# Altium footprint library Diode.PcbLib: 4 footprints
Each footprint in its own frame and in the unit in brackets; x right, y up, seen from the top. Pads: shape width x height; smd on the part's side, far side on the other; paste and mask are expansions set on the pad; w line width, h text height; cw(c..) or ccw(c..) is an arc to the next point about the centre after c.
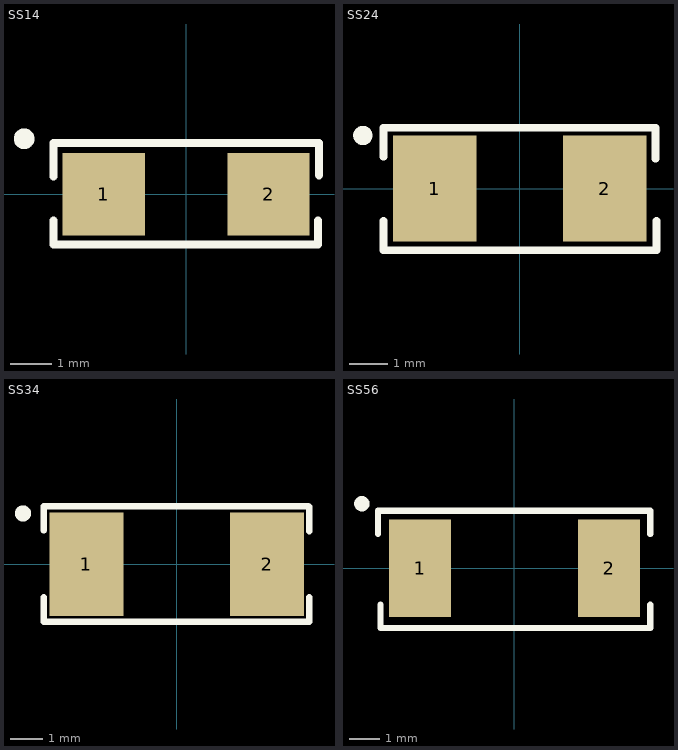
[diagram p0: the footprints below, top view; thin cyan lines are the x and y axes]

## SS14 [mm] "DO-214-AC/SMA Molded Diode, Body 5.3x2.6mm, IPC Medium Density"
height 2.3
pads (2):
  rect 1.999x1.999 smd: 1(-2,0) 2(2,0)
Top Overlay:
  circle w0.25: c-3.937,1.346 r0.125
  lines w0.2: -3.226,-0.638 -3.226,-1.219 3.2,-1.219 3.2,-0.638 ; -3.226,0.432 -3.226,1.245 3.226,1.245 ; 3.226,0.457 3.226,1.219
3D body "DIOM5326X230N.stp": height 2.3, standoff 0, extent -2.75,-1.4 2.75,1.4

## SS24 [mil] "DO-214-AC/SMA Molded Diode, Body 5.3x2.6mm, IPC Medium Density"
height 90.55
pads (2):
  rect 85x108 smd: 1(-86.61,0) 2(86.61,0)
Top Overlay:
  circle w9.84: c-160,54 r4.92
  lines w7.87: -139,-33 -139,-63 139,-63 139,-33 ; -139,32.26 -139,62 138,62 ; 138,30.26 138,60.26
3D body "DIOM5326X230N.stp": height 90.55, standoff 0, extent -108.26,-55.12 108.27,55.12

## SS34 [mil] "DO-214-AC/SMA Molded Diode, Body 5.3x2.6mm, IPC Medium Density"
height 90.55
pads (2):
  rect 90x126 smd: 1(-110,0) 2(110,0)
Top Overlay:
  circle w9.84: c-187,62 r4.92
  lines w7.87: -162,-40 -162,-70 161,-70 161,-40 ; -162,41.26 -162,71 160,71 ; 161,40.26 161,70.26
3D body "DIOM5326X230N.stp": height 90.55, standoff 0, extent -108.26,-55.12 108.27,55.12

## SS56 [mil] "DO-214-AC/SMA Molded Diode, Body 5.3x2.6mm, IPC Medium Density"
height 90.55
pads (2):
  rect 80x126 smd: 1(-121,0) 2(122,0)
Top Overlay:
  circle w9.84: c-196,83 r4.92
  lines w7.87: -175,44 -175,74 175,74 175,44 ; -172,-47 -172,-77 175,-77 175,-47
3D body "DIOM5326X230N.stp": height 90.55, standoff 0, extent -108.26,-55.12 108.27,55.12